# EAGLE library part LT3120 (library Eagle_CAD_parts)
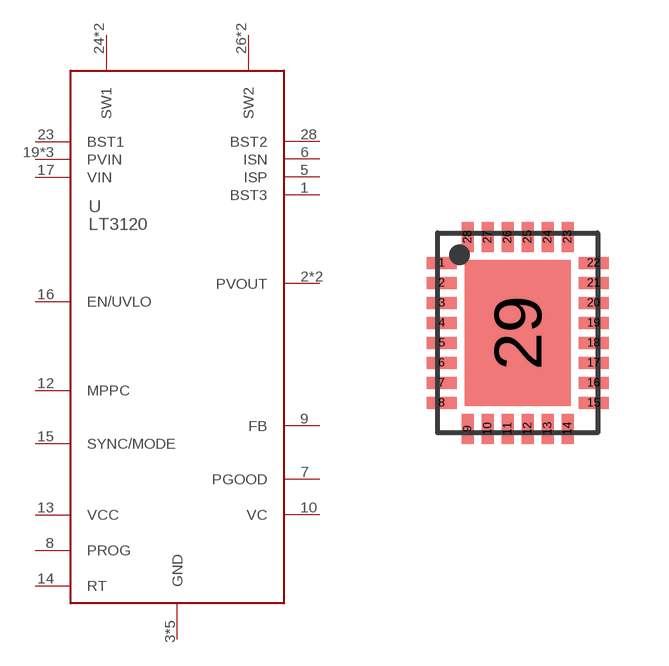
[diagram p83: symbol with the pads of 28-LQFN-5X4; footprint 28-LQFN-5X4]

Designator prefix U

## LT3120JV#PBF (MANUFACTURER_PART_NUMBER: LT3120JV#PBF)  [28-LQFN-5X4]
1  BST3
2  PVOUT
3  GND
4  PVOUT
5  ISP
6  ISN
7  PGOOD
8  PROG
9  FB
10  VC
11  GND
12  MPPC
13  VCC
14  RT
15  SYNC/MODE
16  EN/UVLO
17  VIN
18  GND
19  PVIN
20  PVIN
21  PVIN
22  GND
23  BST1
24  SW1
25  SW1
26  SW2
27  SW2
28  BST2
29  GND

## Footprint 28-LQFN-5X4 (pad centres in mm)
smd 0.75 x 0.3: 1 -1.9,1.75; 2 -1.9,1.25; 3 -1.9,0.75; 4 -1.9,0.25; 5 -1.9,-0.25; 6 -1.9,-0.75; 7 -1.9,-1.25; 8 -1.9,-1.75; 15 1.9,-1.75; 16 1.9,-1.25; 17 1.9,-0.75; 18 1.9,-0.25; 19 1.9,0.25; 20 1.9,0.75; 21 1.9,1.25; 22 1.9,1.75
smd 0.3 x 0.75: 9 -1.25,-2.4; 10 -0.75,-2.4; 11 -0.25,-2.4; 12 0.25,-2.4; 13 0.75,-2.4; 14 1.25,-2.4; 23 1.25,2.4; 24 0.75,2.4; 25 0.25,2.4; 26 -0.25,2.4; 27 -0.75,2.4; 28 -1.25,2.4
smd 2.65 x 3.65: 29 0,0